# Altium footprint library eSIM.PcbLib: 4 footprints
Each footprint in its own frame and in the unit in brackets; x right, y up, seen from the top. Pads: shape width x height; smd on the part's side, far side on the other; paste and mask are expansions set on the pad; w line width, h text height; cw(c..) or ccw(c..) is an arc to the next point about the centre after c.
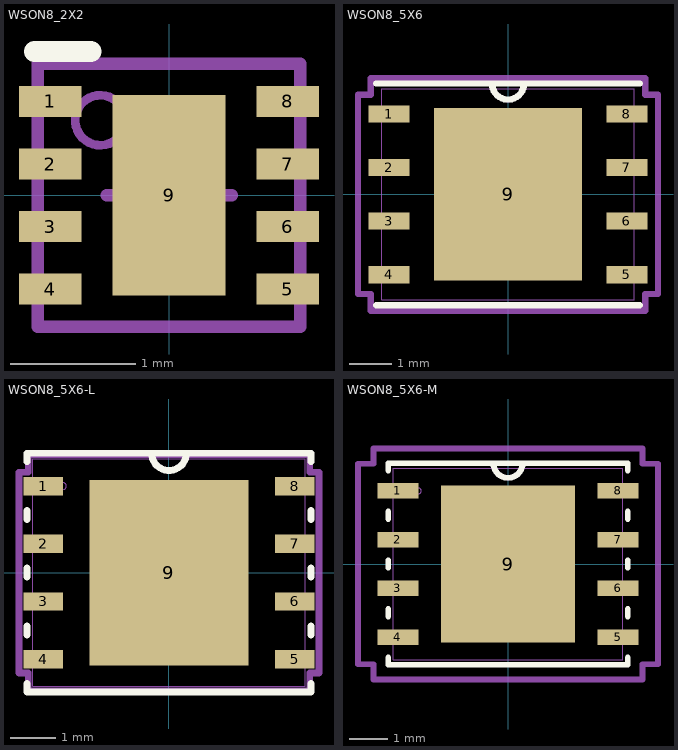
[diagram p0: the footprints below, top view; thin cyan lines are the x and y axes]

## WSON8_2X2 [mil]
pads (9):
  rect 19.68x9.84 smd: 1(-37.4,29.53) 2(-37.4,9.84) 3(-37.4,-9.84) 4(-37.4,-29.53) 5(37.4,-29.53) 6(37.4,-9.84) 7(37.4,9.84) 8(37.4,29.53)
  rect 35.43x62.99 smd: 9(0,0)
Top Overlay:
  lines w6.69: -42.32,45.28 -24.61,45.28
Mechanical 13:
  circle w2.76: c-21.65,23.62 r7.87
  lines w3.94: -41.34,-41.34 41.34,-41.34 41.34,41.34 -41.34,41.34 -41.34,-41.34
Mechanical 15:
  circle w4: c0,0 r10
  lines w3.94: -19.68,0 19.69,0 ; 0,-19.68 0,19.69
3D body "DSG0008A.stp": height 30.51, standoff 0, extent -39.37,-39.37 39.37,39.37

## WSON8_5X6 [mil]
pads (9):
  rect 38x16 smd: 1(-111,75) 2(-111,25) 3(-111,-25) 4(-111,-75) 5(111,-75) 6(111,-25) 7(111,25) 8(111,75)
  rect 138x161 smd: 9(0,0)
Top Overlay:
  lines w6: -123,-103.5 123,-103.5 ; -123,103.5 123,103.5 ; -15,103.5 ccw(c0,103.5) 15,103.5
Mechanical 13:
  lines w0: -12,98.5 ccw(c0,98.5) 12,98.5
  lines w1: -118,-98.5 118,-98.5 118,98.5 -118,98.5 -118,-98.5
Mechanical 15:
  circle w4: c0,0 r20
  lines w4: -40,0 40,0 ; 0,-40 0,40
  lines w6: -140,-93 -140,93 -128,93 -128,108.5 128,108.5 128,93 140,93 140,-93 128,-93 128,-108.5 -128,-108.5 -128,-93 -140,-93
3D body "WSON8_5X6_WND008_CYP.step": height 32.09, standoff 0, extent -117.99,-98.5 117.99,98.5

## WSON8_5X6-L [mil]
pads (9):
  rect 34x16 smd paste+0 mask+0: 1(-109,75) 2(-109,25) 3(-109,-25) 4(-109,-75) 5(109,-75) 6(109,-25) 7(109,25) 8(109,75)
  rect 138x161 smd paste+0 mask+0: 9(0,0)
Top Overlay:
  lines w6: -123,-96.1 -123,-103.5 123,-103.5 123,-96.1 ; -123,-53.9 -123,-46.1 ; -123,-3.9 -123,3.9 ; -123,46.1 -123,53.9 ; -123,96.1 -123,103.5 123,103.5 123,96.1 ; -15,103.5 ccw(c0,103.5) 15,103.5 ; 123,-53.9 123,-46.1 ; 123,-3.9 123,3.9 ; 123,46.1 123,53.9
Mechanical 13:
  circle w0: c-92,75 r3
  lines w0: -12,98.5 ccw(c0,98.5) 12,98.5
  lines w1: -118,-98.5 -118,98.5 118,98.5 118,-98.5 -118,-98.5
Mechanical 15:
  circle w4: c0,0 r20
  lines w4: -40,0 40,0 ; 0,-40 0,40
  lines w6: -130,-87 -122,-87 -122,-102.5 122,-102.5 122,-87 130,-87 130,87 122,87 122,102.5 -122,102.5 -122,87 -130,87 -130,-87
3D body "WSON8_5X6_WND008_CYP.step": height 32.09, standoff 0, extent -117.99,-98.5 117.99,98.5

## WSON8_5X6-M [mil]
pads (9):
  rect 42x16 smd paste+0 mask+0: 1(-113,75) 2(-113,25) 3(-113,-25) 4(-113,-75) 5(113,-75) 6(113,-25) 7(113,25) 8(113,75)
  rect 138x161 smd paste+0 mask+0: 9(0,0)
Top Overlay:
  lines w6: -123,-96.1 -123,-103.5 123,-103.5 123,-96.1 ; -123,-53.9 -123,-46.1 ; -123,-3.9 -123,3.9 ; -123,46.1 -123,53.9 ; -123,96.1 -123,103.5 123,103.5 123,96.1 ; -15,103.5 ccw(c0,103.5) 15,103.5 ; 123,-53.9 123,-46.1 ; 123,-3.9 123,3.9 ; 123,46.1 123,53.9
Mechanical 13:
  circle w0: c-92,75 r3
  lines w0: -12,98.5 ccw(c0,98.5) 12,98.5
  lines w1: -118,-98.5 118,-98.5 118,98.5 -118,98.5 -118,-98.5
Mechanical 15:
  circle w4: c0,0 r20
  lines w4: -40,0 40,0 ; 0,-40 0,40
  lines w6: -154,-103 -154,103 -138,103 -138,118.5 138,118.5 138,103 154,103 154,-103 138,-103 138,-118.5 -138,-118.5 -138,-103 -154,-103
3D body "WSON8_5X6_WND008_CYP.step": height 32.09, standoff 0, extent -117.99,-98.5 117.99,98.5